# Altium schematic symbol library AtmegaSensor.SchLib: 1 symbol
Pins are listed as number, name and electrical type; pins without a type are passive.

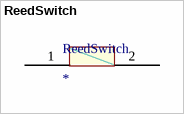
[diagram p0: symbol ReedSwitch]

## ReedSwitch
designator ReedSwitch
pins: 1, 2